# Altium footprint library SOP127P600-8N_100PinConnRecptr_Hirose.PcbLib: 1 footprints
Each footprint in its own frame and in the unit in brackets; x right, y up, seen from the top. Pads: shape width x height; smd on the part's side, far side on the other; paste and mask are expansions set on the pad; w line width, h text height; cw(c..) or ccw(c..) is an arc to the next point about the centre after c.
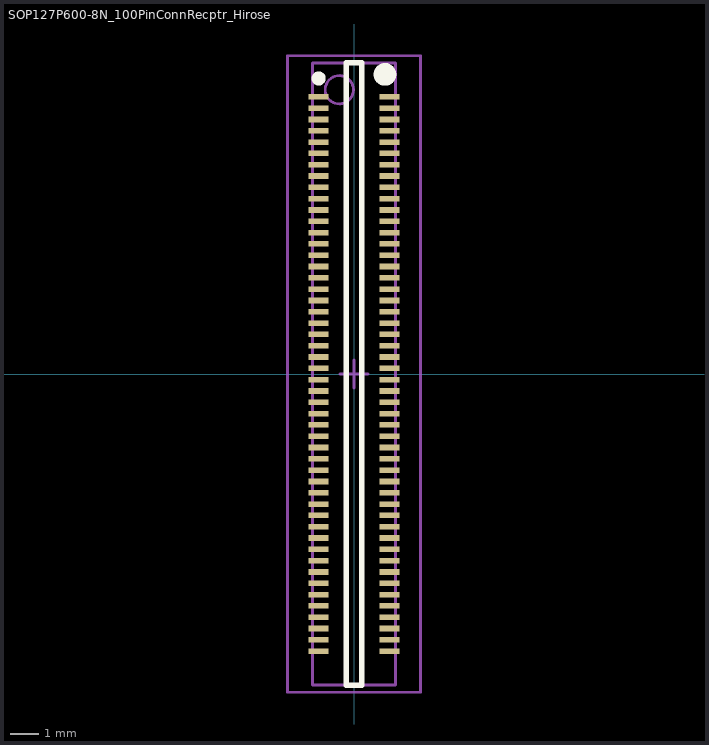
[diagram p0: the footprint, top view; thin cyan lines are the x and y axes]

## SOP127P600-8N_100PinConnRecptr_Hirose [mm] "SOP127P600-8N_100PinConnRecptr_Hirose"
height 2.55
pads (100):
  rect 0.7x0.2 smd: 1(-1.25,9.8) 2(-1.25,9.4) 3(-1.25,9) 4(-1.25,8.6) 5(-1.25,8.2) 6(-1.25,7.8) 7(-1.25,7.4) 8(-1.25,7) 9(-1.25,6.6) 10(-1.25,6.2) 11(-1.25,5.8) 12(-1.25,5.4) 13(-1.25,5) 14(-1.25,4.6) 15(-1.25,4.2) 16(-1.25,3.8) 17(-1.25,3.4) 18(-1.25,3) 19(-1.25,2.6) 20(-1.25,2.2) 21(-1.25,1.8) 22(-1.25,1.4) 23(-1.25,1) 24(-1.25,0.6) 25(-1.25,0.2) 26(-1.25,-0.2) 27(-1.25,-0.6) 28(-1.25,-1) 29(-1.25,-1.4) 30(-1.25,-1.8) 31(-1.25,-2.2) 32(-1.25,-2.6) 33(-1.25,-3) 34(-1.25,-3.4) 35(-1.25,-3.8) 36(-1.25,-4.2) 37(-1.25,-4.6) 38(-1.25,-5) 39(-1.25,-5.4) 40(-1.25,-5.8) 41(-1.25,-6.2) 42(-1.25,-6.6) 43(-1.25,-7) 44(-1.25,-7.4) 45(-1.25,-7.8) 46(-1.25,-8.2) 47(-1.25,-8.6) 48(-1.25,-9) 49(-1.25,-9.4) 50(-1.25,-9.8) 51(1.25,-9.8) 52(1.25,-9.4) 53(1.25,-9) 54(1.25,-8.6) 55(1.25,-8.2) 56(1.25,-7.8) 57(1.25,-7.4) 58(1.25,-7) 59(1.25,-6.6) 60(1.25,-6.2) 61(1.25,-5.8) 62(1.25,-5.4) 63(1.25,-5) 64(1.25,-4.6) 65(1.25,-4.2) 66(1.25,-3.8) 67(1.25,-3.4) 68(1.25,-3) 69(1.25,-2.6) 70(1.25,-2.2) 71(1.25,-1.8) 72(1.25,-1.4) 73(1.25,-1) 74(1.25,-0.6) 75(1.25,-0.2) 76(1.25,0.2) 77(1.25,0.6) 78(1.25,1) 79(1.25,1.4) 80(1.25,1.8) 81(1.25,2.2) 82(1.25,2.6) 83(1.25,3) 84(1.25,3.4) 85(1.25,3.8) 86(1.25,4.2) 87(1.25,4.6) 88(1.25,5) 89(1.25,5.4) 90(1.25,5.8) 91(1.25,6.2) 92(1.25,6.6) 93(1.25,7) 94(1.25,7.4) 95(1.25,7.8) 96(1.25,8.2) 97(1.25,8.6) 98(1.25,9) 99(1.25,9.4) 100(1.25,9.8)
Top Overlay:
  circle w0.25: c-1.25,10.45 r0.125
  circle w0.4: c1.095,10.592 r0.2
  lines w0.2: -0.275,-11 -0.275,11 0.275,11 0.275,-11 -0.275,-11
Mechanical 13:
  circle w0.1: c-0.52,10.05 r0.5
  lines w0.1: -1.47,-11 -1.47,11 1.47,11 1.47,-11 -1.47,-11
Mechanical 15:
  lines w0.1: -0.5,0 0.5,0 ; 0,-0.5 0,0.5 ; -2.35,-11.25 -2.35,11.25 2.35,11.25 2.35,-11.25 -2.35,-11.25
3D body: height 2.55, standoff 0.12, extent -1.47,-11 1.47,11